# EAGLE library part PIC24FJ256GB108 (library 1dah)
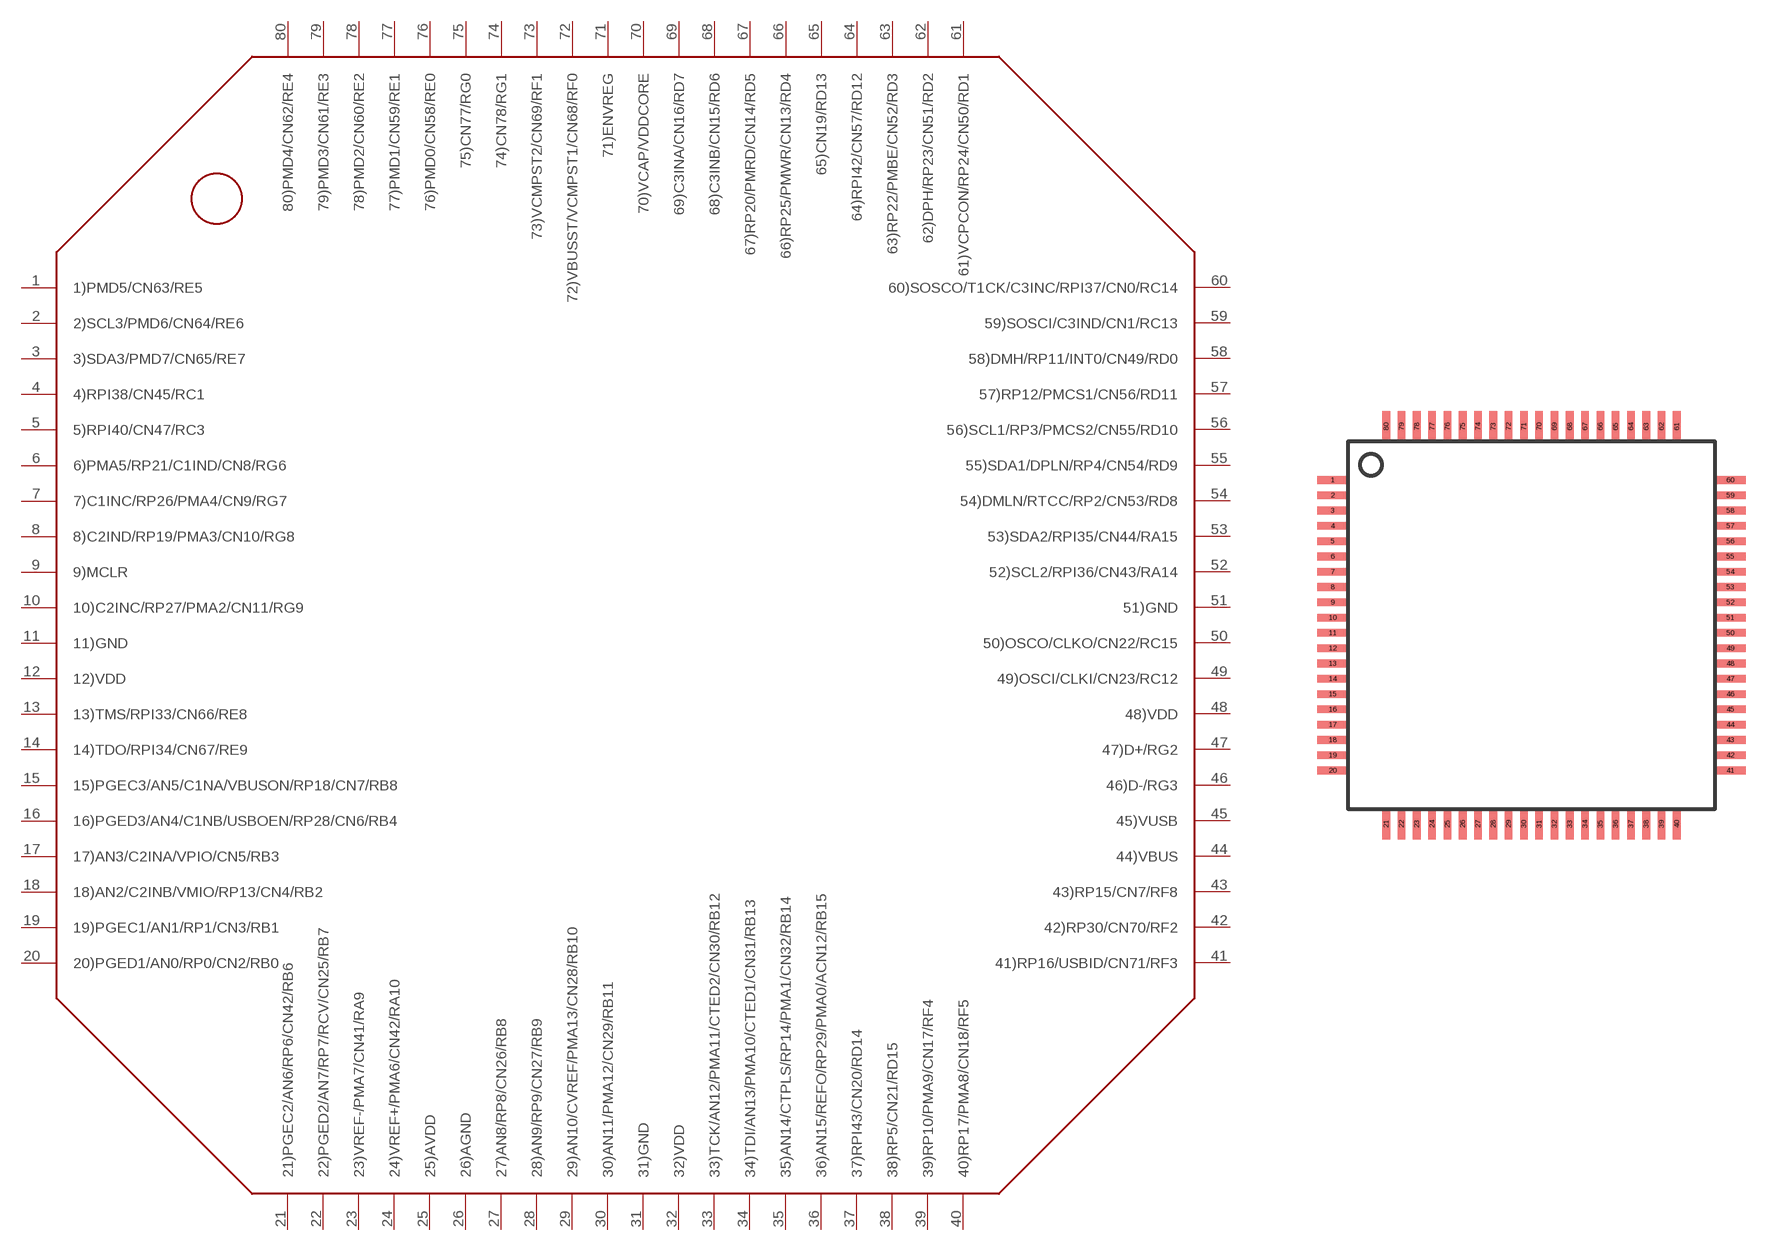
[diagram p13: symbol with the pads of TQFP80; footprint TQFP80]

Designator prefix -

## PIC24FJ256GB108  [TQFP80]
1  1)PMD5/CN63/RE5
2  2)SCL3/PMD6/CN64/RE6
3  3)SDA3/PMD7/CN65/RE7
4  4)RPI38/CN45/RC1
5  5)RPI40/CN47/RC3
6  6)PMA5/RP21/C1IND/CN8/RG6
7  7)C1INC/RP26/PMA4/CN9/RG7
8  8)C2IND/RP19/PMA3/CN10/RG8
9  9)MCLR
10  10)C2INC/RP27/PMA2/CN11/RG9
11  11)GND
12  12)VDD
13  13)TMS/RPI33/CN66/RE8
14  14)TDO/RPI34/CN67/RE9
15  15)PGEC3/AN5/C1NA/VBUSON/RP18/CN7/RB8
16  16)PGED3/AN4/C1NB/USBOEN/RP28/CN6/RB4
17  17)AN3/C2INA/VPIO/CN5/RB3
18  18)AN2/C2INB/VMIO/RP13/CN4/RB2
19  19)PGEC1/AN1/RP1/CN3/RB1
20  20)PGED1/AN0/RP0/CN2/RB0
21  21)PGEC2/AN6/RP6/CN42/RB6
22  22)PGED2/AN7/RP7/RCV/CN25/RB7
23  23)VREF-/PMA7/CN41/RA9
24  24)VREF+/PMA6/CN42/RA10
25  25)AVDD
26  26)AGND
27  27)AN8/RP8/CN26/RB8
28  28)AN9/RP9/CN27/RB9
29  29)AN10/CVREF/PMA13/CN28/RB10
30  30)AN11/PMA12/CN29/RB11
31  31)GND
32  32)VDD
33  33)TCK/AN12/PMA11/CTED2/CN30/RB12
34  34)TDI/AN13/PMA10/CTED1/CN31/RB13
35  35)AN14/CTPLS/RP14/PMA1/CN32/RB14
36  36)AN15/REFO/RP29/PMA0/ACN12/RB15
37  37)RPI43/CN20/RD14
38  38)RP5/CN21/RD15
39  39)RP10/PMA9/CN17/RF4
40  40)RP17/PMA8/CN18/RF5
41  41)RP16/USBID/CN71/RF3
42  42)RP30/CN70/RF2
43  43)RP15/CN7/RF8
44  44)VBUS
45  45)VUSB
46  46)D-/RG3
47  47)D+/RG2
48  48)VDD
49  49)OSCI/CLKI/CN23/RC12
50  50)OSCO/CLKO/CN22/RC15
51  51)GND
52  52)SCL2/RPI36/CN43/RA14
53  53)SDA2/RPI35/CN44/RA15
54  54)DMLN/RTCC/RP2/CN53/RD8
55  55)SDA1/DPLN/RP4/CN54/RD9
56  56)SCL1/RP3/PMCS2/CN55/RD10
57  57)RP12/PMCS1/CN56/RD11
58  58)DMH/RP11/INT0/CN49/RD0
59  59)SOSCI/C3IND/CN1/RC13
60  60)SOSCO/T1CK/C3INC/RPI37/CN0/RC14
61  61)VCPCON/RP24/CN50/RD1
62  62)DPH/RP23/CN51/RD2
63  63)RP22/PMBE/CN52/RD3
64  64)RPI42/CN57/RD12
65  65)CN19/RD13
66  66)RP25/PMWR/CN13/RD4
67  67)RP20/PMRD/CN14/RD5
68  68)C3INB/CN15/RD6
69  69)C3INA/CN16/RD7
70  70)VCAP/VDDCORE
71  71)ENVREG
72  72)VBUSST/VCMPST1/CN68/RF0
73  73)VCMPST2/CN69/RF1
74  74)CN78/RG1
75  75)CN77/RG0
76  76)PMD0/CN58/RE0
77  77)PMD1/CN59/RE1
78  78)PMD2/CN60/RE2
79  79)PMD3/CN61/RE3
80  80)PMD4/CN62/RE4

## Footprint TQFP80 (pad centres in mm)
smd 1 x 0.25: 1 -6.5,4.75; 2 -6.5,4.25; 3 -6.5,3.75; 4 -6.5,3.25; 5 -6.5,2.75; 6 -6.5,2.25; 7 -6.5,1.75; 8 -6.5,1.25; 9 -6.5,0.75; 10 -6.5,0.25; 11 -6.5,-0.25; 12 -6.5,-0.75; 13 -6.5,-1.25; 14 -6.5,-1.75; 15 -6.5,-2.25; 16 -6.5,-2.75; 17 -6.5,-3.25; 18 -6.5,-3.75; 19 -6.5,-4.25; 20 -6.5,-4.75; 41 6.5,-4.75; 42 6.5,-4.25; 43 6.5,-3.75; 44 6.5,-3.25; 45 6.5,-2.75; 46 6.5,-2.25; 47 6.5,-1.75; 48 6.5,-1.25; 49 6.5,-0.75; 50 6.5,-0.25; 51 6.5,0.25; 52 6.5,0.75; 53 6.5,1.25; 54 6.5,1.75; 55 6.5,2.25; 56 6.5,2.75; 57 6.5,3.25; 58 6.5,3.75; 59 6.5,4.25; 60 6.5,4.75
smd 0.25 x 1: 21 -4.75,-6.5; 22 -4.25,-6.5; 23 -3.75,-6.5; 24 -3.25,-6.5; 25 -2.75,-6.5; 26 -2.25,-6.5; 27 -1.75,-6.5; 28 -1.25,-6.5; 29 -0.75,-6.5; 30 -0.25,-6.5; 31 0.25,-6.5; 32 0.75,-6.5; 33 1.25,-6.5; 34 1.75,-6.5; 35 2.25,-6.5; 36 2.75,-6.5; 37 3.25,-6.5; 38 3.75,-6.5; 39 4.25,-6.5; 40 4.75,-6.5; 61 4.75,6.5; 62 4.25,6.5; 63 3.75,6.5; 64 3.25,6.5; 65 2.75,6.5; 66 2.25,6.5; 67 1.75,6.5; 68 1.25,6.5; 69 0.75,6.5; 70 0.25,6.5; 71 -0.25,6.5; 72 -0.75,6.5; 73 -1.25,6.5; 74 -1.75,6.5; 75 -2.25,6.5; 76 -2.75,6.5; 77 -3.25,6.5; 78 -3.75,6.5; 79 -4.25,6.5; 80 -4.75,6.5